# EAGLE library part DRV425RTJ (library EW_sensors)
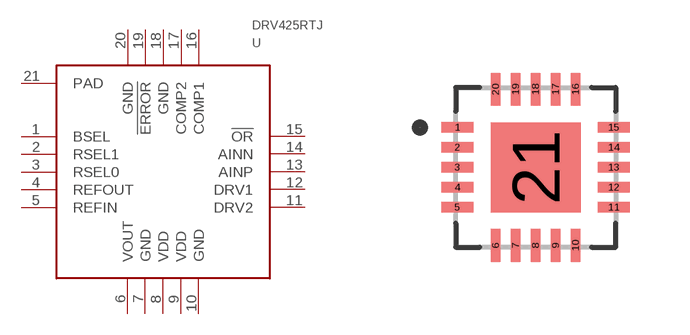
[diagram p1: symbol with the pads of QFN50P400X400X100-21N; footprint QFN50P400X400X100-21N]

Designator prefix U

## DRV425RTJ  [QFN50P400X400X100-21N]
1  BSEL
2  RSEL1
3  RSEL0
4  REFOUT
5  REFIN
6  VOUT
7  GND
8  VDD
9  VDD
10  GND
11  DRV2
12  DRV1
13  AINP
14  AINN
15  !OR
16  COMP1
17  COMP2
18  GND
19  !ERROR
20  GND
21  PAD

## Footprint QFN50P400X400X100-21N (pad centres in mm)
smd 0.81 x 0.26: 1 -1.955,1; 2 -1.955,0.5; 3 -1.955,0; 4 -1.955,-0.5; 5 -1.955,-1; 11 1.955,-1; 12 1.955,-0.5; 13 1.955,0; 14 1.955,0.5; 15 1.955,1
smd 0.26 x 0.81: 6 -1,-1.955; 7 -0.5,-1.955; 8 0,-1.955; 9 0.5,-1.955; 10 1,-1.955; 16 1,1.955; 17 0.5,1.955; 18 0,1.955; 19 -0.5,1.955; 20 -1,1.955
smd 2.25 x 2.25: 21 0,0